# Altium footprint library 智能温控风扇.PcbLib: 16 footprints
Each footprint in its own frame and in the unit in brackets; x right, y up, seen from the top. Pads: shape width x height; smd on the part's side, far side on the other; paste and mask are expansions set on the pad; w line width, h text height; cw(c..) or ccw(c..) is an arc to the next point about the centre after c.
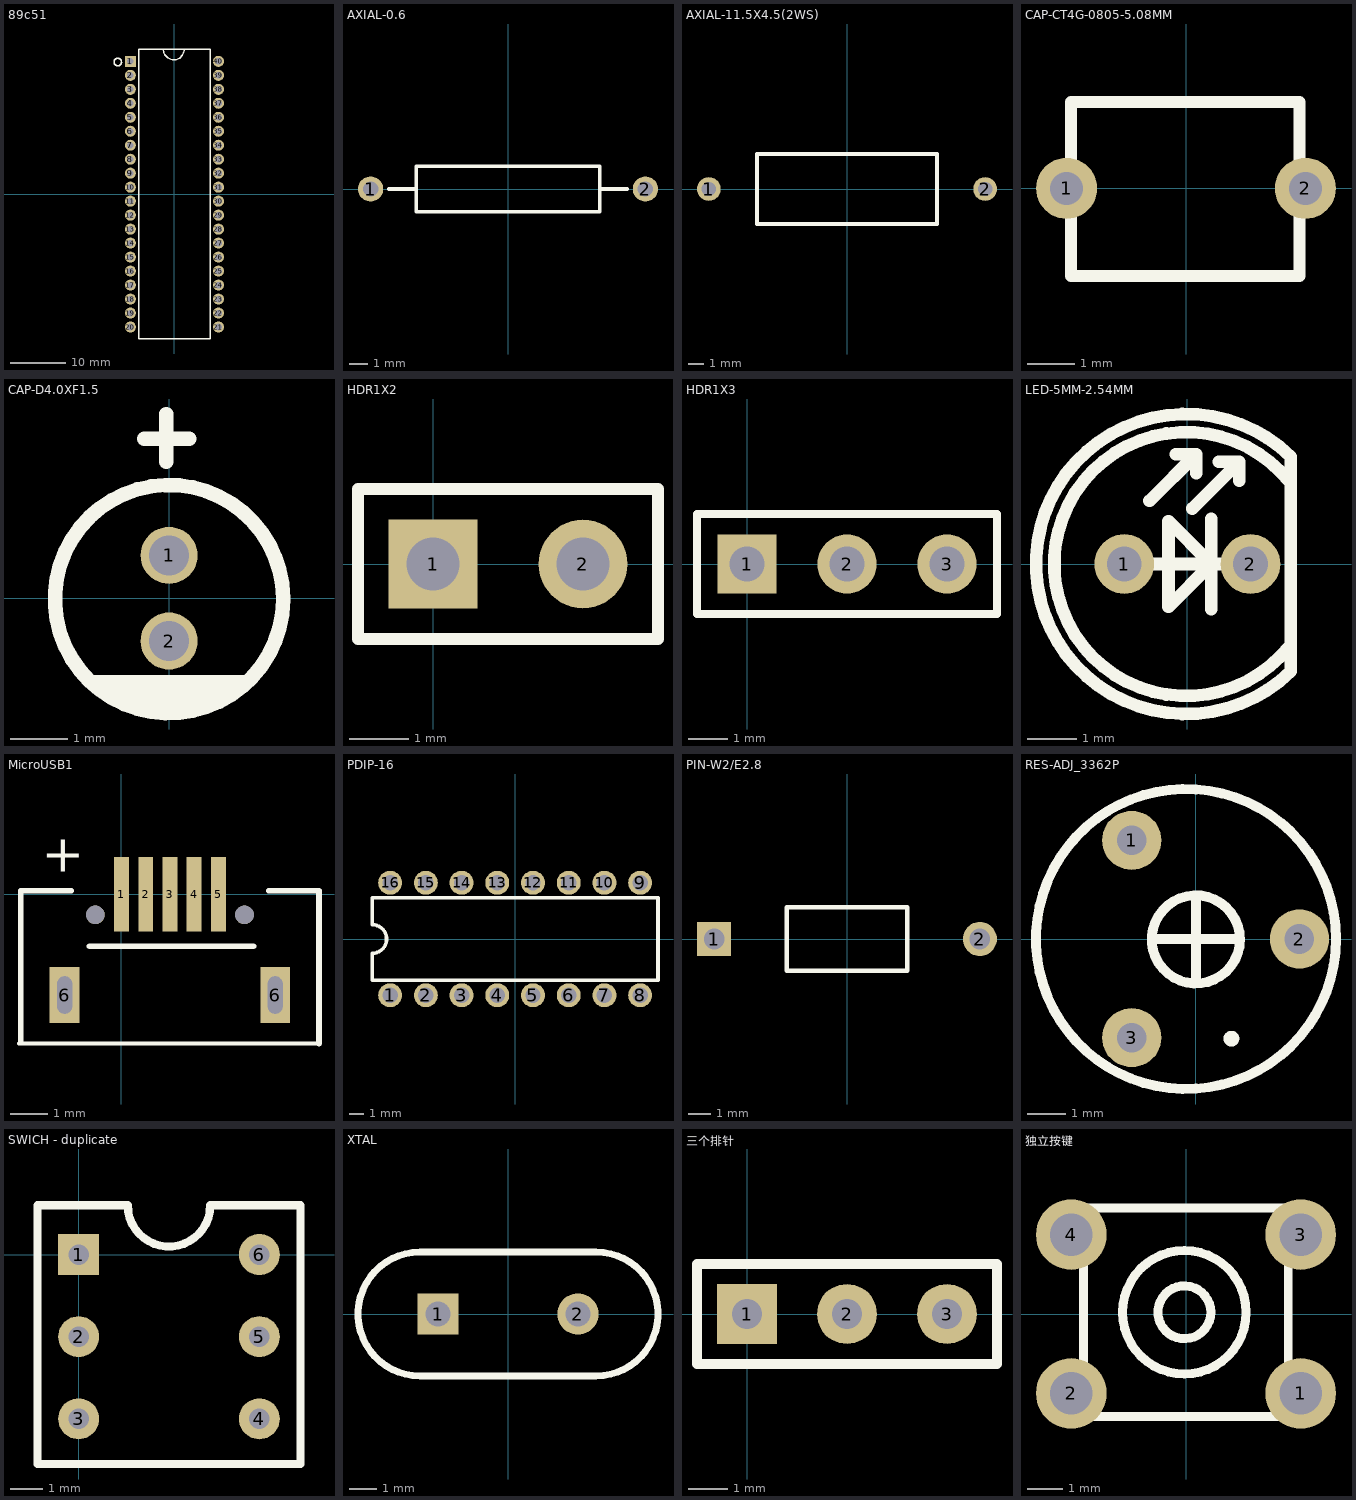
[diagram p0: the footprints below, top view; thin cyan lines are the x and y axes]

## 89c51 [mm]
height 1.4
pads (40):
  rect 2x2 hole 1.2: 1(-8,24.13)
  round 2 hole 1.2: 2(-8,21.59) 3(-8,19.05) 4(-8,16.51) 5(-8,13.97) 6(-8,11.43) 7(-8,8.89) 8(-8,6.35) 9(-8,3.81) 10(-8,1.27) 11(-8,-1.27) 12(-8,-3.81) 13(-8,-6.35) 14(-8,-8.89) 15(-8,-11.43) 16(-8,-13.97) 17(-8,-16.51) 18(-8,-19.05) 19(-8,-21.59) 20(-8,-24.13) 21(8,-24.13) 22(8,-21.59) 23(8,-19.05) 24(8,-16.51) 25(8,-13.97) 26(8,-11.43) 27(8,-8.89) 28(8,-6.35) 29(8,-3.81) 30(8,-1.27) 31(8,1.27) 32(8,3.81) 33(8,6.35) 34(8,8.89) 35(8,11.43) 36(8,13.97) 37(8,16.51) 38(8,19.05) 39(8,21.59) 40(8,24.13)
Top Overlay:
  circle w0.254: c-10.287,24.003 r0.684
  lines w0.254: -6.5,-26.3 6.5,-26.3 ; -6.5,-26.289 -6.5,26.289 ; -6.5,26.3 6.5,26.3 ; -2.006,26.154 ccw(c-0.127,26.3) 1.758,26.3 ; 6.5,-26.289 6.5,26.289
3D body: height 4.99, standoff -3.18, extent -7.753,-26.173 7.747,26.427

## AXIAL-0.6 [mm] "Axial Device, Thru-Hole; 2 Leads; 0.6 in Pin Spacing"
height 2.54
pads (2):
  round 1.4 hole 0.85: 1(-7.62,0) 2(7.62,0)
Top Overlay:
  lines w0.2: -6.604,0 -5.08,0 ; 5.08,0 6.604,0 ; -5.08,-1.27 -5.08,1.27 5.08,1.27 5.08,-1.27 -5.08,-1.27
3D body: height 5, standoff -3, extent -8.02,-2 8.02,2

## AXIAL-11.5X4.5(2WS) [mil]
height 55.12
pads (2):
  round 60 hole 36: 1(-350,0) 2(350,0)
Top Overlay:
  lines w10: -228.35,-88.58 228.35,-88.58 228.35,88.58 -228.35,88.58 -228.35,-88.58

## CAP-CT4G-0805-5.08MM [mm]
height 1.4
pads (2):
  round 1.3 hole 0.7: 1(-2.54,0) 2(2.54,0)
Top Overlay:
  lines w0.254: -2.442,-1.865 2.408,-1.865 ; -2.442,-1.86 -2.442,1.841 ; -2.439,1.84 2.411,1.84 ; 2.411,-1.866 2.411,1.835

## CAP-D4.0XF1.5 [mm]
height 1.4
pads (2):
  round 1 hole 0.7: 1(0,0.751) 2(0,-0.751)
Top Overlay:
  region: -1.4,-1.351 -1.277,-1.5 -1.004,-1.725 -0.691,-1.892 -0.352,-1.995 0,-2.029 0.352,-1.995 0.691,-1.892 1.004,-1.725 1.277,-1.5 1.4,-1.351
  lines w0.254: -0.432,2.796 0.356,2.796 ; -0.051,2.39 -0.051,3.228 ; 1.999,-0.032 cw(c-0.001,-0.015) 1.999,0.001

## HDR1X2 [mm] "Connector; Header; 2 Position"
height 1.4
pads (2):
  rect 1.5x1.5 hole 0.9: 1(0,0)
  round 1.5 hole 0.9: 2(2.54,0)
Top Overlay:
  lines w0.2: -1.27,-1.27 -1.27,1.27 3.81,1.27 3.81,-1.27 -1.27,-1.27

## HDR1X3 [mm] "Connector; Header; 3 Position"
height 1.4
pads (3):
  rect 1.5x1.5 hole 0.9: 1(0,0)
  round 1.5 hole 0.9: 2(2.54,0) 3(5.08,0)
Top Overlay:
  lines w0.2: -1.27,-1.27 -1.27,1.27 6.35,1.27 6.35,-1.27 -1.27,-1.27

## LED-5MM-2.54MM [mm]
height 1.4
pads (2):
  round 1.2 hole 0.7: 1(-1.27,0) 2(1.27,0)
Top Overlay:
  lines w0.254: -1.295,0 1.27,0 ; -0.762,1.27 0.178,2.21 ; -0.229,2.21 0.178,2.21 ; 0.102,1.118 1.041,2.057 ; 0.178,1.829 0.178,2.21 ; 0.457,0.025 -0.381,0.864 -0.381,-0.864 0.457,-0.025 0.483,-0.025 ; 0.483,-0.914 0.483,0.914 ; 0.635,2.057 1.041,2.057 ; 1.041,1.676 1.041,2.057 ; 2.057,-1.651 cw(c-0.023,0) 2.057,1.651 ; 2.083,-2.159 cw(c-0.028,0) 2.083,2.159 2.083,-2.134

## MicroUSB1 [mm] "MircroUSBĸͷ"
height 1.4
pads (9):
  rect 0.4x2 smd: 1(0,0) 2(0.65,0) 3(1.3,0) 4(1.95,0) 5(2.6,0)
  rect 0.8x1.5 hole 0.4 slot 1 at 90 deg: 6(-1.525,-2.7) 6(4.125,-2.7)
  round 0.5 hole 0.5 unplated: ""(-0.7,-0.55) ""(3.3,-0.55)
Top Overlay:
  lines w0.1: -2.75,-4 5.3,-4
  lines w0.152: -2.7,-3.95 -2.7,-1.616 -2.7,0.1 -1.35,0.1 ; -0.859,-1.391 3.541,-1.391 ; 3.95,0.1 5.3,0.1 5.3,-1.65 5.3,-4
  text "+" at -2.137,0.608 h1
Keep-Out Layer:
  lines w0.127: -1.754,-3.243 -1.754,-2.125 -1.296,-2.125 -1.296,-3.243 -1.754,-3.243 ; 3.896,-3.243 3.896,-2.125 4.354,-2.125 4.354,-3.243 3.896,-3.243
Mechanical 1:
  lines w0.127: -1.754,-3.243 -1.296,-3.243 -1.296,-2.125 -1.754,-2.125 -1.754,-3.243 ; 3.896,-3.243 4.354,-3.243 4.354,-2.125 3.896,-2.125 3.896,-3.243

## PDIP-16 [mm]
height 1.4
pads (16):
  round 1.7 hole 1.1: 1(-8.89,-4) 2(-6.35,-4) 3(-3.81,-4) 4(-1.27,-4) 5(1.27,-4) 6(3.81,-4) 7(6.35,-4) 8(8.89,-4) 9(8.89,4) 10(6.35,4) 11(3.81,4) 12(1.27,4) 13(-1.27,4) 14(-3.81,4) 15(-6.35,4) 16(-8.89,4)
Top Overlay:
  lines w0.254: -10.16,-2.921 -10.16,-1.016 ccw(c-10.16,0) -10.16,1.016 -10.16,2.921 10.16,2.921 10.16,-2.921 -10.16,-2.921

## PIN-W2/E2.8 [mm] "Thru-Hole; 2 Leads"
height 1.4
pads (2):
  rect 1.5x1.5 hole 0.9: 1(-5.825,0)
  round 1.5 hole 0.9: 2(5.825,0)
Top Overlay:
  lines w0.2: -2.65,-1.4 2.65,-1.4 2.65,1.4 -2.65,1.4 -2.65,-1.4

## RES-ADJ_3362P [mil]
height 55.12
pads (3):
  round 60 hole 30: 1(-65,100) 2(105,0) 3(-65,-100)
Top Overlay:
  circle w10: c-10,0 r152.07
  lines w10: -40,0 40,0 ; 0,-40 0,40 ; 39,-101.1 cw(c36,-101.05) 39,-101 ; 44.7,-0.8 cw(c-0.02,-0.4) 44.7,0

## SWICH - duplicate [mil]
height 55.12
pads (6):
  rect 50x50 hole 25: 1(0,0)
  round 50 hole 25: 2(0,-100) 3(0,-200) 4(220,-200) 5(220,-100) 6(220,0)
Top Overlay:
  lines w10: -50,-255 270,-255 270,45 270,60 160.25,60 cw(c110,60) 59.75,60 -50,60 -50,45 -50,-255

## XTAL [mm]
height 1.4
pads (2):
  rect 1.5x1.5 hole 0.9: 1(-2.54,0)
  round 1.5 hole 0.9: 2(2.54,0)
Top Overlay:
  lines w0.254: -3.2,-2.25 cw(c-3.2,0) -3.2,2.25 3.2,2.25 cw(c3.2,0) 3.2,-2.25 -3.2,-2.25

## 三个排针 [mil]
height 55.12
pads (3):
  rect 60x60 hole 30: 1(0,0)
  round 60 hole 30: 2(100,0) 3(200,0)
Top Overlay:
  lines w10: -50,-50 250,-50 250,50 -50,50 -50,-50

## 独立按键 [mm]
height 1.4
pads (4):
  round 2 hole 1.2: 1(3.25,-2.25) 2(-3.25,-2.25) 3(3.25,2.25) 4(-3.25,2.25)
Top Overlay:
  circle w0.254: c-0.046,0.048 r0.749
  circle w0.254: c-0.046,0.048 r1.75
  lines w0.254: -2.902,-2.898 -2.902,3.001 2.897,3.001 2.897,-2.898 -2.902,-2.898